# Altium schematic symbol library DidesInc.SchLib: 3 symbols
Pins are listed as number, name and electrical type; pins without a type are passive.

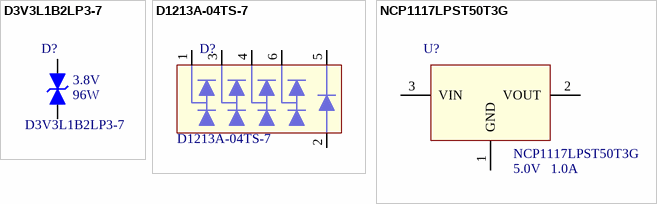
[diagram p0: symbols D3V3L1B2LP3-7 to NCP1117LPST50T3G]

## D3V3L1B2LP3-7
designator D?  Voltage: 3.8V  Power: 96W  (hidden comment: D3V3L1B2LP3-7)
TVS Diode 1.5kW 130V 5% Bi-Directional; Manufacturer: Diodes Inc; PartNumber: D3V3L1B2LP3-7
footprint DIODE-0603 (Chip Diode 0603)
pins: 1 A, 2 K

## D1213A-04TS-7
designator D?
TVS Diodes 3.3V 10Vc TSOT26; Manufacturer: Diodes Inc; PartNumber: D1213A-04TS-7
pins: 1, 2, 3, 4, 5, 6

## NCP1117LPST50T3G
designator U?  Part Number: NCP1117LPST50T3G  Voltage: 5.0V  Current: 1.0A  (hidden comment: *)
IC REG LDO 5V 1A SOT223; Manufacturer: ON Semiconductor; Supplier 1: Digi-Key; Supplier Part Number 1: NCP1117LPST50T3GOSDKR-ND; Supplier 2: Mouser; Supplier Part Number 2: 863-NCP1117LPST50T3G
footprint SOT223 (SOT223, 4-Leads, Body 6.50x7.00mm (avg), Pitch 2.30mm, IPC Medium Density)
pins: 1 GND, 2 VOUT, 3 VIN